# Altium footprint library WE-WPCC.PcbLib: 65 footprints (part 2 of 5)
Each footprint in its own frame and in the unit in brackets; x right, y up, seen from the top. Pads: shape width x height; smd on the part's side, far side on the other; paste and mask are expansions set on the pad; w line width, h text height; cw(c..) or ccw(c..) is an arc to the next point about the centre after c.
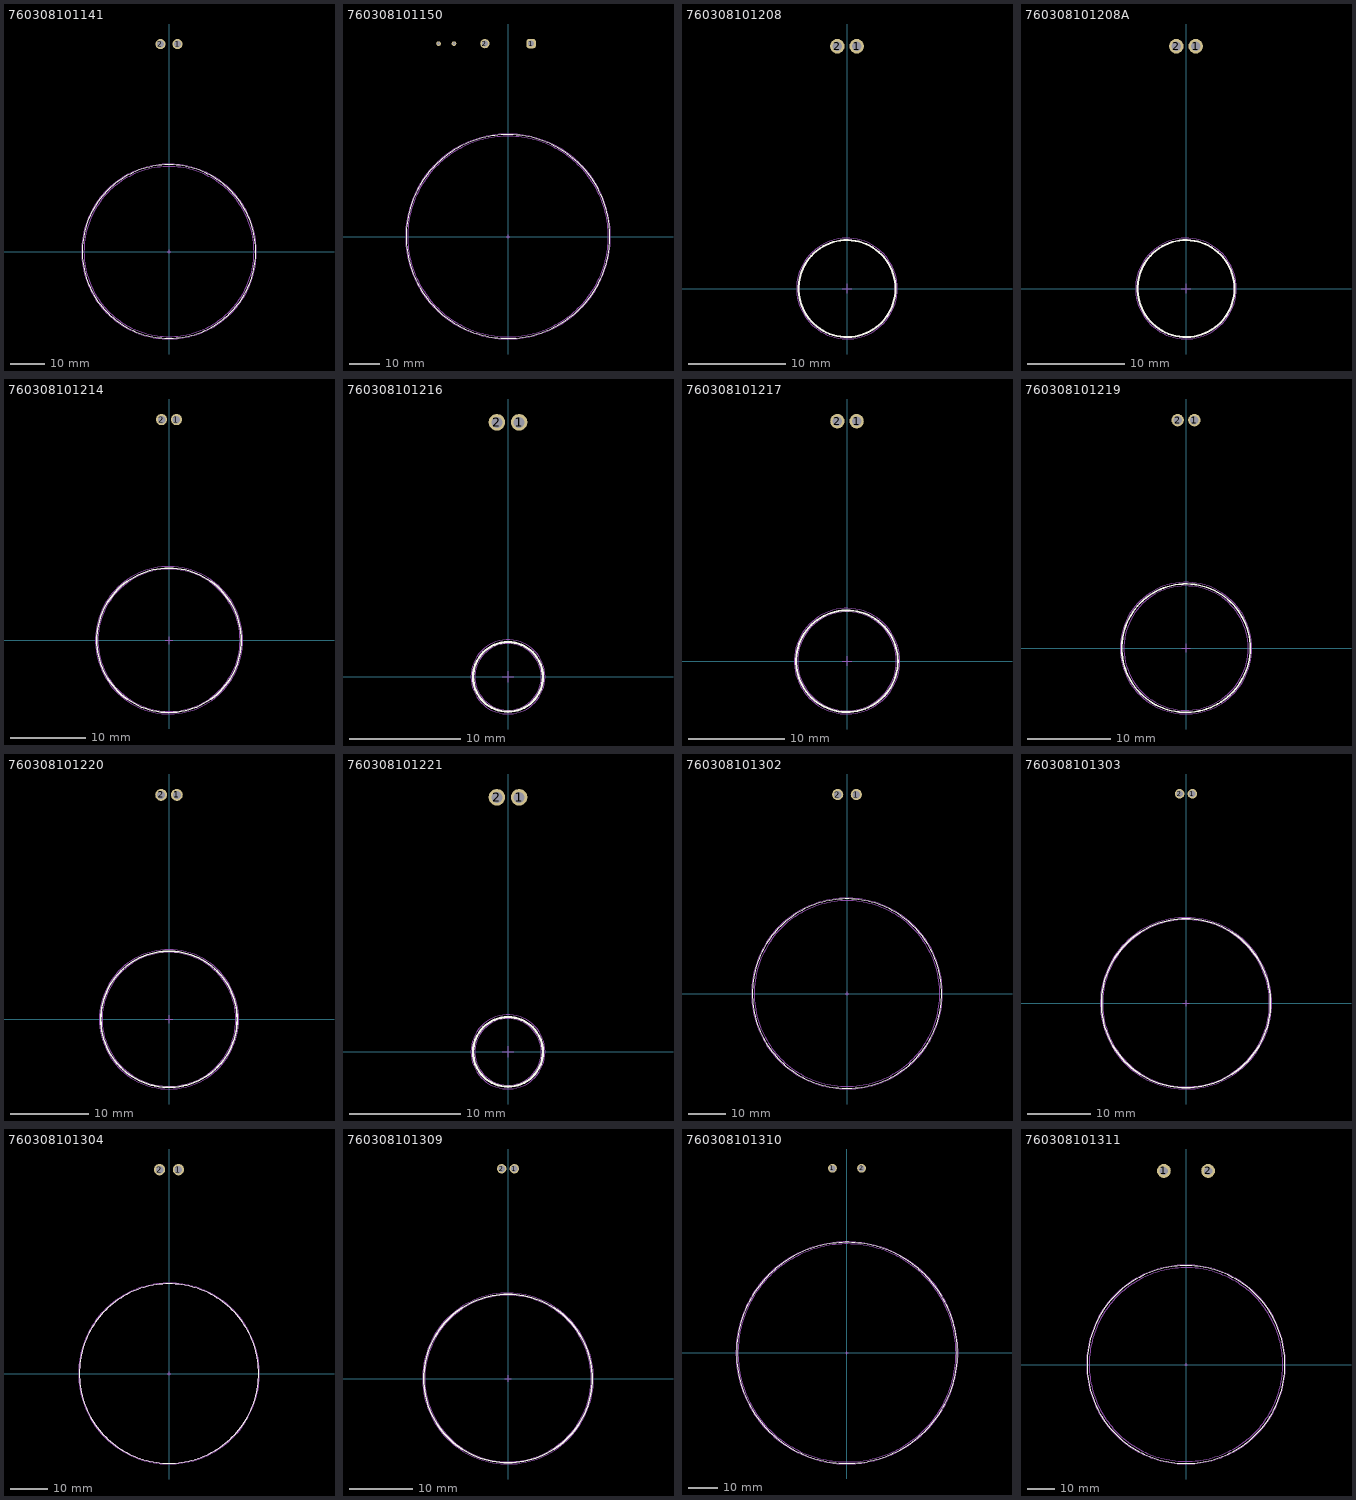
[diagram p1: the footprints below, top view; thin cyan lines are the x and y axes]

## 760308101141 [mm] "Wireless Power Transfer Transmitter Coil, Dia 50mm"
height 5
pads (2):
  round 3 hole 2: 1(2.5,61) 2(-2.5,61)
Top Overlay:
  circle w0.2: c0,0 r25.5
Assembly Notes:
  text "Pitch 5mm min." at -7,57 h1.22
Top Component Outline:
  circle w0.1: c0,0 r25
Top 3D Body:
  circle w0.1: c0,0 r25
Top Courtyard:
  circle w0.05: c0,0 r25.7
Top Component Center:
  lines w0.05: -0.5,0 0.5,0 ; 0,-0.5 0,0.5
Top Designator (Mech19):
  text ".Designator" at -7.498,-0.5 h1.5
3D body "760308101141.stp": height 4.17, standoff 0.1, extent -24.993,-25 24.993,70.5

## 760308101150 [mm] "WPT/NFC Combination Transmitter Coil, body Diameter 65mm"
height 3.5
pads (4):
  rrect50% 3x3 hole 2: 1(7.5,62.5)
  round 3 hole 2: 2(-7.5,62.5)
  round 1.5 hole 1: 3(-17.5,62.5) 4(-22.5,62.5)
Top Overlay:
  circle w0.2: c0,0 r33
Top Component Outline:
  circle w0.1: c0,0 r32.5
Top 3D Body:
  circle w0.1: c0,0 r32.5
Top Courtyard:
  circle w0.05: c0,0 r33.2
Top Component Center:
  lines w0.05: -0.5,0 0.5,0 ; 0,-0.5 0,0.5
Top Designator (Mech19):
  text ".Designator" at -7.498,-0.5 h1.5
3D body "760308101150 (rev1).stp": height 3.59, standoff 0.08, extent -32.5,-32.496 32.5,72.504

## 760308101208 [mm] "Wireless Power Transfer Receiver Coil,  Dia 10mm"
height 1.68
pads (2):
  round 1.5 hole 1: 1(1,25) 2(-1,25)
Top Overlay:
  circle w0.2: c0,0 r5
Assembly Notes:
  text "Pitch 2mm min." at -6,22 h1.22
Top Component Outline:
  circle w0.1: c0,0 r5
Top 3D Body:
  circle w0.1: c0,0 r5
Top Courtyard:
  circle w0.05: c0,0 r5.2
Top Component Center:
  lines w0.05: -0.5,0 0.5,0 ; 0,-0.5 0,0.5
Top Designator (Mech19):
  text ".Designator" at -7.498,-0.5 h1.5
3D body "760308101208.stp": height 1.92, standoff 0.07, extent -5.15,-5.148 5.15,30.2

## 760308101208A [mm] "Wireless Power Transfer Receiver Coil,  Dia 10mm"
height 1.68
pads (2):
  round 1.5 hole 1: 1(1,25) 2(-1,25)
Top Overlay:
  circle w0.2: c0,0 r5
Assembly Notes:
  text "Pitch 2mm min." at -6,22 h1.22
Top Component Outline:
  circle w0.1: c0,0 r5
Top 3D Body:
  circle w0.1: c0,0 r5
Top Courtyard:
  circle w0.05: c0,0 r5.2
Top Component Center:
  lines w0.05: -0.5,0 0.5,0 ; 0,-0.5 0,0.5
Top Designator (Mech19):
  text ".Designator" at -7.498,-0.5 h1.5
3D body "760308101208.stp": height 1.9, standoff 0.05, extent -5.15,-5.148 5.15,30.2

## 760308101214 [mm] "Wireless Power Transfer Receiver Coil,  Dia 19mm"
height 0.8
pads (2):
  round 1.5 hole 1: 1(1,29.5) 2(-1,29.5)
Top Overlay:
  circle w0.2: c0,0 r9.65
Assembly Notes:
  text "Pitch 2mm min." at -7,27 h1.22
Top Component Outline:
  circle w0.1: c0,0 r9.5
Top 3D Body:
  circle w0.1: c0,0 r9.5
Top Courtyard:
  circle w0.05: c0,0 r9.85
Top Component Center:
  lines w0.05: -0.5,0 0.5,0 ; 0,-0.5 0,0.5
Top Designator (Mech19):
  text ".Designator" at -7.498,-0.5 h1.5
3D body "760308101214.stp": height 0.91, standoff 0.05, extent -9.499,-9.5 9.5,34.5

## 760308101216 [mm] "Wireless Power Transfer Receiver Coil,  Dia 6mm"
height 2
pads (2):
  round 1.5 hole 1: 1(1,23) 2(-1,23)
Top Overlay:
  circle w0.2: c0,0 r3.15
Assembly Notes:
  text "Pitch 2mm min." at -7,20 h1.22
Top Component Outline:
  circle w0.1: c0,0 r3
Top 3D Body:
  circle w0.1: c0,0 r3
Top Courtyard:
  circle w0.05: c0,0 r3.35
Top Component Center:
  lines w0.05: -0.5,0 0.5,0 ; 0,-0.5 0,0.5
Top Designator (Mech19):
  text ".Designator" at -7.498,-0.5 h1.5
3D body "760308101216.stp": height 1.33, standoff 0.06, extent -2.999,-3 2.999,28

## 760308101217 [mm] "Wireless Power Transfer Receiver Coil,  Dia 10mm"
height 2.36
pads (2):
  round 1.5 hole 1: 1(1,25) 2(-1,25)
Top Overlay:
  circle w0.2: c0,0 r5.3
Assembly Notes:
  text "Pitch 2mm min." at -7,22 h1.22
Top Component Outline:
  circle w0.1: c0,0 r5.15
Top 3D Body:
  circle w0.1: c0,0 r5.15
Top Courtyard:
  circle w0.05: c0,0 r5.5
Top Component Center:
  lines w0.05: -0.5,0 0.5,0 ; 0,-0.5 0,0.5
Top Designator (Mech19):
  text ".Designator" at -7.498,-0.5 h1.5
3D body "760308101217.stp": height 1.99, standoff 0.06, extent -5.149,-5.15 5.148,30.15

## 760308101219 [mm] "Wireless Power Transfer Receiver Coil,  Dia 15mm"
height 0.85
pads (2):
  round 1.5 hole 1: 1(1,27.5) 2(-1,27.5)
Top Overlay:
  circle w0.2: c0,0 r7.75
Assembly Notes:
  text "Pitch 2mm min." at -7,25 h1.22
Top Component Outline:
  circle w0.1: c0,0 r7.5
Top 3D Body:
  circle w0.1: c0,0 r7.5
Top Courtyard:
  circle w0.05: c0,0 r7.95
Top Component Center:
  lines w0.05: -0.5,0 0.5,0 ; 0,-0.5 0,0.5
Top Designator (Mech19):
  text ".Designator" at -7.498,-0.5 h1.5
3D body "760308101219.stp": height 0.84, standoff 0.07, extent -7.498,-7.5 7.498,32.5

## 760308101220 [mm] "Wireless Power Transfer Receiver Coil,  Dia 17mm"
height 1.02
pads (2):
  round 1.5 hole 1: 1(1,28.5) 2(-1,28.5)
Top Overlay:
  circle w0.2: c0,0 r8.65
Assembly Notes:
  text "Pitch 2mm min." at -7,26 h1.22
Top Component Outline:
  circle w0.1: c0,0 r8.5
Top 3D Body:
  circle w0.1: c0,0 r8.5
Top Courtyard:
  circle w0.05: c0,0 r8.85
Top Component Center:
  lines w0.05: -0.5,0 0.5,0 ; 0,-0.5 0,0.5
Top Designator (Mech19):
  text ".Designator" at -7.498,-0.5 h1.5
3D body "760308101220.stp": height 0.95, standoff 0.1, extent -8.5,-8.5 8.499,33.5

## 760308101221 [mm] "Wireless Power Transfer Receiver Coil,  Dia 6mm"
height 4.31
pads (2):
  round 1.5 hole 1: 1(1,23) 2(-1,23)
Top Overlay:
  circle w0.2: c0,0 r3.15
Assembly Notes:
  text "Pitch 2mm min." at -6,20 h1.22
Top Component Outline:
  circle w0.1: c0,0 r3
Top 3D Body:
  circle w0.1: c0,0 r3
Top Courtyard:
  circle w0.05: c0,0 r3.35
Top Component Center:
  lines w0.05: -0.5,0 0.5,0 ; 0,-0.5 0,0.5
Top Designator (Mech19):
  text ".Designator" at -7.498,-0.5 h1.5
3D body "760308101221.stp": height 4, standoff 0.04, extent -2.999,-3 2.999,28

## 760308101302 [mm] "Wireless Power Transfer Transmitter Coil,  Dia 50mm"
height 4.7
pads (2):
  round 3 hole 2: 1(2.5,53.6) 2(-2.5,53.6)
Top Overlay:
  circle w0.2: c0,0 r25.5
Assembly Notes:
  text "Pitch 5mm min." at -7,50 h1.22
Top Component Outline:
  circle w0.1: c0,0 r25
Top 3D Body:
  circle w0.1: c0,0 r25
Top Courtyard:
  circle w0.05: c0,0 r25.7
Top Component Center:
  lines w0.05: -0.5,0 0.5,0 ; 0,-0.5 0,0.5
Top Designator (Mech19):
  text ".Designator" at -7.498,-0.5 h1.5
3D body "760308101302.stp": height 5.67, standoff 0.3, extent -24.998,-24.998 24.98,61.9

## 760308101303 [mm] "Wireless Power Transfer Receiver Coil,  Dia 26mm"
height 1.61
pads (2):
  round 1.5 hole 1: 1(1,33) 2(-1,33)
Top Overlay:
  circle w0.2: c0,0 r13.3
Assembly Notes:
  text "Pitch 2mm min." at -7,30 h1.22
Top Component Outline:
  circle w0.1: c0,0 r13.15
Top 3D Body:
  circle w0.1: c0,0 r13.15
Top Courtyard:
  circle w0.05: c0,0 r13.5
Top Component Center:
  lines w0.05: -0.5,0 0.5,0 ; 0,-0.5 0,0.5
Top Designator (Mech19):
  text ".Designator" at -7.498,-0.5 h1.5
3D body "760308101303.stp": height 1.64, standoff 0.07, extent -13.147,-13.15 13.149,38.15

## 760308101304 [mm] "Wireless Power Transfer Transmitter Coil,  Dia 48mm"
height 3
pads (2):
  round 3 hole 2: 1(2.5,54) 2(-2.5,54)
Top Overlay:
  circle w0.2: c0,0 r23.75
Assembly Notes:
  text "Pitch 5mm min." at -7,50 h1.22
Top Component Outline:
  circle w0.1: c0,0 r23.75
Top 3D Body:
  circle w0.1: c0,0 r23.75
Top Courtyard:
  circle w0.05: c0,0 r23.95
Top Component Center:
  lines w0.05: -0.5,0 0.5,0 ; 0,-0.5 0,0.5
Top Designator (Mech19):
  text ".Designator" at -7.498,-0.5 h1.5
3D body "760308101304.stp": height 3.64, standoff 0.1, extent -23.746,-23.751 23.745,61.249

## 760308101309 [mm] "Wireless Power Transfer Receiver Coil, Dia 26mm"
height 0.69
pads (2):
  round 1.5 hole 1: 1(1,33.15) 2(-1,33.15)
Top Overlay:
  circle w0.2: c0,0 r13.3
Assembly Notes:
  text "Pitch 2mm min." at -7,30 h1.22
Top Component Outline:
  circle w0.1: c0,0 r13.15
Top 3D Body:
  circle w0.1: c0,0 r13.15
Top Courtyard:
  circle w0.05: c0,0 r13.5
Top Component Center:
  lines w0.05: -0.5,0 0.5,0 ; 0,-0.5 0,0.5
Top Designator (Mech19):
  text ".Designator" at -7.498,-0.5 h1.5
3D body "760308101309.stp": height 0.54, standoff 0.01, extent -13.147,-13.151 13.149,38.149

## 760308101310 [mm] "WPT/NFC Combination Transmitter Coil, body Diameter 75mm"
height 3.3
pads (2):
  round 3 hole 2: 1(-5,63.5) 2(5,63.5)
Top Overlay:
  circle w0.2: c0,0 r38
Top Component Outline:
  circle w0.1: c0,0 r37.5
Top 3D Body:
  circle w0.1: c0,0 r37.5
Top Courtyard:
  circle w0.05: c0,0 r38.2
Top Component Center:
  lines w0.05: -0.5,0 0.5,0 ; 0,-0.5 0,0.5
Top Designator (Mech19):
  text ".Designator" at -7.498,-0.5 h1.5
3D body "760308101310 (rev1).stp": height 2.86, standoff 0.07, extent -37.5,-37.49 37.5,67.5

## 760308101311 [mm] "Wireless Power Transfer Transmitter Coil, Dia 70mm"
height 8.5
pads (2):
  round 5 hole 3: 1(-8,70) 2(8,70)
Top Overlay:
  circle w0.2: c0,0 r35.75
Top Component Outline:
  circle w0.1: c0,0 r35
Top 3D Body:
  circle w0.1: c0,0 r35
Top Courtyard:
  circle w0.05: c0,0 r35.95
Top Component Center:
  lines w0.05: -0.5,0 0.5,0 ; 0,-0.5 0,0.5
Top Designator (Mech19):
  text ".Designator" at -7.498,-0.5 h1.5
3D body "760308101311.stp": height 8.07, standoff 0.09, extent -35,-35 35,74.99